# EAGLE library part RELAY-DPDT (library Skoba)
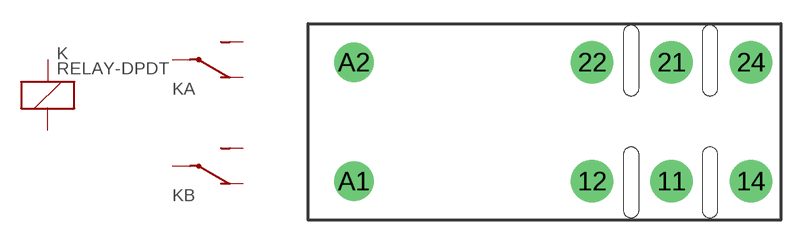
[diagram p13: symbol with the pads of RT2C/O; footprint RT2C/O]

Designator prefix K; gates X=K A=U B=U

## RELAY-DPDT  [RT2C/O]
11  A:P  pas
12  A:O  pas
14  A:S  pas
21  B:P  pas
22  B:O  pas
24  B:S  pas
A1  X:1  pas
A2  X:2  pas

## Footprint RT2C/O (pad centres in mm)
SCHRACK Relay w/ space for socket
drill 1.5 pad 2.7: 11 7.56,-3.68; 12 2.52,-3.68; 14 12.6,-3.68; 21 7.56,3.88; 22 2.52,3.88; 24 12.6,3.88
drill 1.5 pad 2.5: A1 -12.6,-3.68; A2 -12.6,3.88